# Altium schematic symbol library Schlib1.SchLib: 4 symbols
Pins are listed as number, name and electrical type; pins without a type are passive.

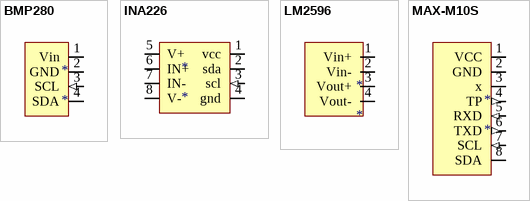
[diagram p0: symbols BMP280 to MAX-M10S]

## BMP280
designator *
footprint BMP280
pins: 1 Vin (power), 2 GND (power), 3 SCL (in), 4 SDA (io)

## INA226
designator *
footprint INA226
pins: 1 vcc (power), 2 sda (io), 3 scl (in), 4 gnd (power), 5 V+, 6 IN+, 7 IN-, 8 V-

## LM2596
designator *
footprint LM2596
pins: 1 Vin+ (power), 2 Vin- (power), 3 Vout+ (power), 4 Vout- (power)

## MAX-M10S
designator *
footprint MAX-M10S
pins: 1 VCC (power), 2 GND (power), 3 x, 4 TP (out), 5 RXD (in), 6 TXD (out), 7 SCL (in), 8 SDA (io)